# EAGLE library part BM14B(0.8)-24DS-0.4V(53) (library BM14B(0.8)-24DS-0.4V)
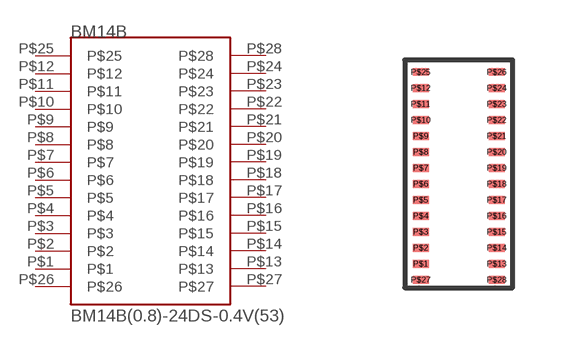
[diagram p0: symbol with the pads of BM14B(0.8)-24DS-0.4V(53); footprint BM14B(0.8)-24DS-0.4V(53)]

Designator prefix BM14B

## BM14B(0.8)-24DS-0.4V(53)  [BM14B(0.8)-24DS-0.4V(53)]
P$1  P$1
P$2  P$2
P$3  P$3
P$4  P$4
P$5  P$5
P$6  P$6
P$7  P$7
P$8  P$8
P$9  P$9
P$10  P$10
P$11  P$11
P$12  P$12
P$13  P$13
P$14  P$14
P$15  P$15
P$16  P$16
P$17  P$17
P$18  P$18
P$19  P$19
P$20  P$20
P$21  P$21
P$22  P$22
P$23  P$23
P$24  P$24
P$25  P$25
P$26  P$26
P$27  P$27
P$28  P$28

## Footprint BM14B(0.8)-24DS-0.4V(53) (pad centres in mm)
smd 0.4 x 0.2: P$1 0.2,0.1; P$2 0.2,0.5; P$3 0.2,0.9; P$4 0.2,1.3; P$5 0.2,1.7; P$6 0.2,2.1; P$7 0.2,2.5; P$8 0.2,2.9; P$9 0.2,3.3; P$10 0.2,3.7; P$11 0.2,4.1; P$12 0.2,4.5; P$13 2.1,0.1; P$14 2.1,0.5; P$15 2.1,0.9; P$16 2.1,1.3; P$17 2.1,1.7; P$18 2.1,2.1; P$19 2.1,2.5; P$20 2.1,2.9; P$21 2.1,3.3; P$22 2.1,3.7; P$23 2.1,4.1; P$24 2.1,4.5; P$25 0.2,4.9; P$26 2.1,4.9; P$27 0.2,-0.3; P$28 2.1,-0.3